# Altium footprint library DPAK228P990X239-4N.PcbLib: 1 footprints
Each footprint in its own frame and in the unit in brackets; x right, y up, seen from the top. Pads: shape width x height; smd on the part's side, far side on the other; paste and mask are expansions set on the pad; w line width, h text height; cw(c..) or ccw(c..) is an arc to the next point about the centre after c.
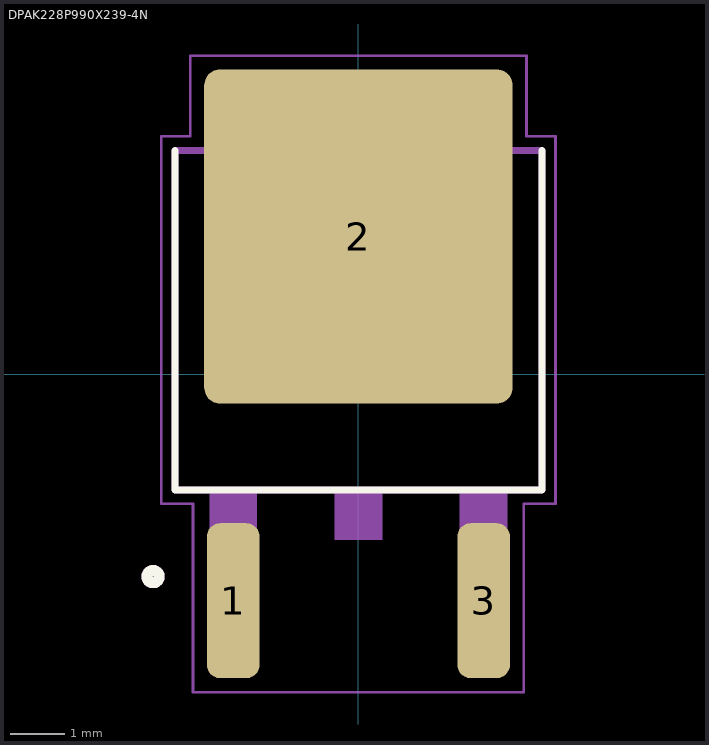
[diagram p0: the footprint, top view; thin cyan lines are the x and y axes]

## DPAK228P990X239-4N [mm]
pads (3):
  rrect50% 0.96x2.83 smd: 1(-2.286,-4.14) 3(2.286,-4.14)
  rrect10% 5.63x6.1 smd paste-4: 2(0,2.51)
Top Overlay:
  circle w0.2: c-3.75,-3.7 r0.112
  lines w0.127: -3.35,4.085 -3.35,-2.115 3.35,-2.115 3.35,4.085
Top Paste:
  region: 0.655,1.78 -0.655,1.78 -0.655,3.24 0.655,3.24
  region: 0.655,3.81 -0.655,3.81 -0.655,5.27 0.655,5.27
  region: 0.655,-0.25 -0.655,-0.25 -0.655,1.21 0.655,1.21
  region: -1.225,3.81 -2.535,3.81 -2.535,5.27 -1.225,5.27
  region: -1.225,1.78 -2.535,1.78 -2.535,3.24 -1.225,3.24
  region: 2.535,1.78 1.225,1.78 1.225,3.24 2.535,3.24
  region: 2.535,3.81 1.225,3.81 1.225,5.27 2.535,5.27
  region: -1.225,-0.25 -2.535,-0.25 -2.535,1.21 -1.225,1.21
  region: 2.535,-0.25 1.225,-0.25 1.225,1.21 2.535,1.21
Mechanical 13:
  circle w0.2: c-3.75,-3.7 r0.112
  region: -1.854,-5.156 -2.718,-5.156 -2.718,-2.115 -1.854,-2.115
  region: 2.718,-5.156 1.854,-5.156 1.854,-2.115 2.718,-2.115
  region: 0.432,-3.023 -0.432,-3.023 -0.432,-2.115 0.432,-2.115
  region: 2.565,4.648 2.565,4.085 -2.565,4.085 -2.565,4.648 -2.108,5.2 2.108,5.2
  lines w0.127: -2.565,4.085 -3.35,4.085 -3.35,-2.115 3.35,-2.115 3.35,4.085 2.565,4.085
  lines w0.203: -2.565,4.085 -2.565,4.648 -2.108,5.105 2.108,5.105 2.565,4.648 2.565,4.085 -2.565,4.085
Mechanical 15:
  lines w0.05: -3.6,-2.37 -3.02,-2.37 -3.02,-5.81 3.02,-5.81 3.02,-2.37 3.6,-2.37 3.6,4.34 3.07,4.34 3.07,5.81 -3.07,5.81 -3.07,4.34 -3.6,4.34 -3.6,-2.37